# EAGLE library part 1X13 (library Jordi)
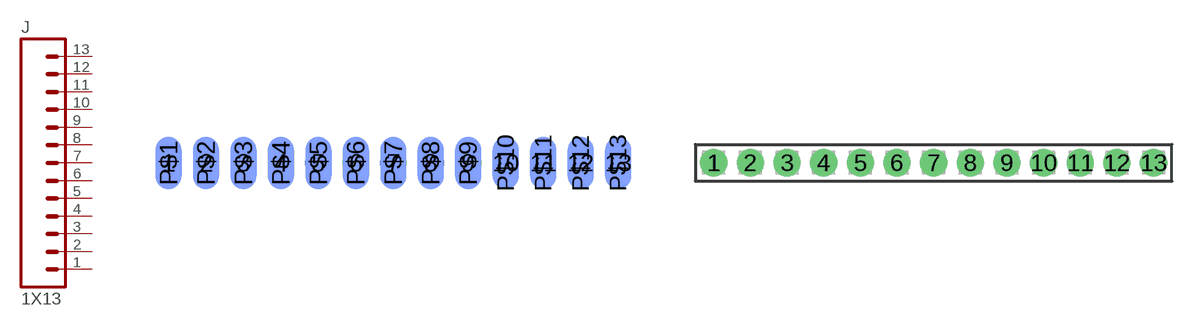
[diagram p40: symbol with the pads of CASTELLATION-13-0.1; footprints CASTELLATION-13-0.1, F-1X13-0.1-PTH]

Designator prefix J

## 1X13CAS-0.1  [CASTELLATION-13-0.1]
1  1  pas
2  2  pas
3  3  pas
4  4  pas
5  5  pas
6  6  pas
7  7  pas
8  8  pas
9  9  pas
10  10  pas
11  11  pas
12  12  pas
13  13  pas

## 1X13F-0.1-PTH  [F-1X13-0.1-PTH]
Pads as for CASTELLATION-13-0.1

## 1X13M-0.1-PTH  [M-1X13-0.1-PTH]
Pads as for CASTELLATION-13-0.1

## Footprint CASTELLATION-13-0.1 (pad centres in mm)
drill 1.016 pad 1.778: 1 -15.24,0; 2 -12.7,0; 3 -10.16,0; 4 -7.62,0; 5 -5.08,0; 6 -2.54,0; 7 0,0; 8 2.54,0; 9 5.08,0; 10 7.62,0; 11 10.16,0; 12 12.7,0; 13 15.24,0
smd 1.778 x 3.556 bottom: P$1 -15.24,0; P$2 -12.7,0; P$3 -10.16,0; P$4 -7.62,0; P$5 -5.08,0; P$6 -2.54,0; P$7 0,0; P$8 2.54,0; P$9 5.08,0; P$10 7.62,0; P$11 10.16,0; P$12 12.7,0; P$13 15.24,0

## Footprint F-1X13-0.1-PTH (pad centres in mm)
drill 1.016 pad 1.88: 1 -15.24,0; 2 -12.7,0; 3 -10.16,0; 4 -7.62,0; 5 -5.08,0; 6 -2.54,0; 7 0,0; 8 2.54,0; 9 5.08,0; 10 7.62,0; 11 10.16,0; 12 12.7,0; 13 15.24,0

## Footprint M-1X13-0.1-PTH (pad centres in mm)
drill 1.016 pad 1.88: 1 -15.24,0; 2 -12.7,0; 3 -10.16,0; 4 -7.62,0; 5 -5.08,0; 6 -2.54,0; 7 0,0; 8 2.54,0; 9 5.08,0; 10 7.62,0; 11 10.16,0; 12 12.7,0; 13 15.24,0